# Altium integrated library ON Semi Interface Line Driver.IntLib: 3 symbols
Pins are listed as number, name and electrical type; pins without a type are passive.

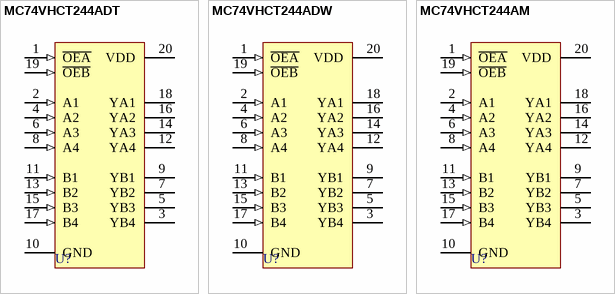
[diagram p0: symbols MC74VHCT244ADT to MC74VHCT244AM]

## MC74VHCT244ADT
designator U?
Octal Bus Buffer/Line Driver with 3-State Outputs; Published: 15-Apr-2002; LatestRevisionDate: 12-Dec-2006; LatestRevisionNote: IPC-7351 Footprint Added.; DatasheetVersion: Jun-1997; PackageVersion: Mar-2000; PackageReference: 948E-02; Publisher: Altium Limited; PackageDescription: 20-Pin Thin Small Outline Package 0.65 mm Pitch; ComponentLink1Description: Manufacturer Link; ComponentLink1URL: http://www.onsemi.com/; ComponentLink2Description: Datasheet; ComponentLink2URL: http://www.onsemi.com/pub/Collateral/MC74VHCT244A-D.PDF
footprint 948E-02_N (TSOP, 20-Leads, Body 6.5x4.4mm, Pitch 0.65mm, IPC Medium Density)
footprint 948E-02_L (TSOP, 20-Leads, Body 6.5x4.4mm, Pitch 0.65mm, IPC High Density)
footprint 948E-02_M (TSOP, 20-Leads, Body 6.5x4.4mm, Pitch 0.65mm, IPC Low Density)
pins: 1 ~{OEA} (in), 2 A1 (in), 3 YB4 (hiz), 4 A2 (in), 5 YB3 (hiz), 6 A3 (in), 7 YB2 (hiz), 8 A4 (in), 9 YB1 (hiz), 10 GND (power), 11 B1 (in), 12 YA4 (hiz), 13 B2 (in), 14 YA3 (hiz), 15 B3 (in), 16 YA2 (hiz), 17 B4 (in), 18 YA1 (hiz), 19 ~{OEB} (in), 20 VDD (power)

## MC74VHCT244ADW
designator U?
Octal Bus Buffer/Line Driver with 3-State Outputs; Published: 15-Apr-2002; LatestRevisionDate: 13-Apr-2006; LatestRevisionNote: IPC-7351 Footprint Added.; DatasheetVersion: Jun-1997; PackageReference: 751D-04; Publisher: Altium Limited; PackageDescription: 20-Pin Small Outline Integrated Circuit 1.27 mm Pitch; ComponentLink1Description: Manufacturer Link; ComponentLink1URL: http://www.onsemi.com/; ComponentLink2Description: Datasheet; ComponentLink2URL: http://www.onsemi.com/pub/Collateral/MC74VHCT244A-D.PDF
footprint 751D-04_N (SOIC, 20-Leads, Body 12.8x7.5mm, Pitch 1.27mm, IPC Medium Density)
footprint 751D-04_L (SOIC, 20-Leads, Body 12.8x7.5mm, Pitch 1.27mm, IPC High Density)
footprint 751D-04_M (SOIC, 20-Leads, Body 12.8x7.5mm, Pitch 1.27mm, IPC Low Density)
pins: 1 ~{OEA} (in), 2 A1 (in), 3 YB4 (hiz), 4 A2 (in), 5 YB3 (hiz), 6 A3 (in), 7 YB2 (hiz), 8 A4 (in), 9 YB1 (hiz), 10 GND (power), 11 B1 (in), 12 YA4 (hiz), 13 B2 (in), 14 YA3 (hiz), 15 B3 (in), 16 YA2 (hiz), 17 B4 (in), 18 YA1 (hiz), 19 ~{OEB} (in), 20 VDD (power)

## MC74VHCT244AM
designator U?
Octal Bus Buffer/Line Driver with 3-State Outputs; ComponentAvailability: Not for New Design; Published: 15-Apr-2002; LatestRevisionDate: 13-Apr-2006; LatestRevisionNote: IPC-7351 Footprint Added.; DatasheetVersion: Jun-1997; PackageVersion: 1997; PackageReference: 967-01; Publisher: Altium Limited; PackageDescription: 20-Pin Small Outline Package 1.27 mm Pitch; ComponentLink1Description: Manufacturer Link; ComponentLink1URL: http://www.onsemi.com/; ComponentLink2Description: Datasheet; ComponentLink2URL: http://www.onsemi.com/pub/Collateral/MC74VHCT244A-D.PDF
footprint 967-01_N (SOP, 20-Leads, Body 12.6x5.3mm, Pitch 1.27mm, IPC Medium Density)
footprint 967-01_L (SOP, 20-Leads, Body 12.6x5.3mm, Pitch 1.27mm, IPC High Density)
footprint 967-01_M (SOP, 20-Leads, Body 12.6x5.3mm, Pitch 1.27mm, IPC Low Density)
pins: 1 ~{OEA} (in), 2 A1 (in), 3 YB4 (hiz), 4 A2 (in), 5 YB3 (hiz), 6 A3 (in), 7 YB2 (hiz), 8 A4 (in), 9 YB1 (hiz), 10 GND (power), 11 B1 (in), 12 YA4 (hiz), 13 B2 (in), 14 YA3 (hiz), 15 B3 (in), 16 YA2 (hiz), 17 B4 (in), 18 YA1 (hiz), 19 ~{OEB} (in), 20 VDD (power)